# Altium schematic symbol library Bourns.SchLib: 1 symbol
Pins are listed as number, name and electrical type; pins without a type are passive.

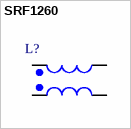
[diagram p0: symbol SRF1260]

## SRF1260
designator L?  (value not drawn)
pins: 1, 2, 3, 4